# Altium footprint library SparkFun-RF.PCBLIB: 87 footprints (part 4 of 6)
Each footprint in its own frame and in the unit in brackets; x right, y up, seen from the top. Pads: shape width x height; smd on the part's side, far side on the other; paste and mask are expansions set on the pad; w line width, h text height; cw(c..) or ccw(c..) is an arc to the next point about the centre after c.
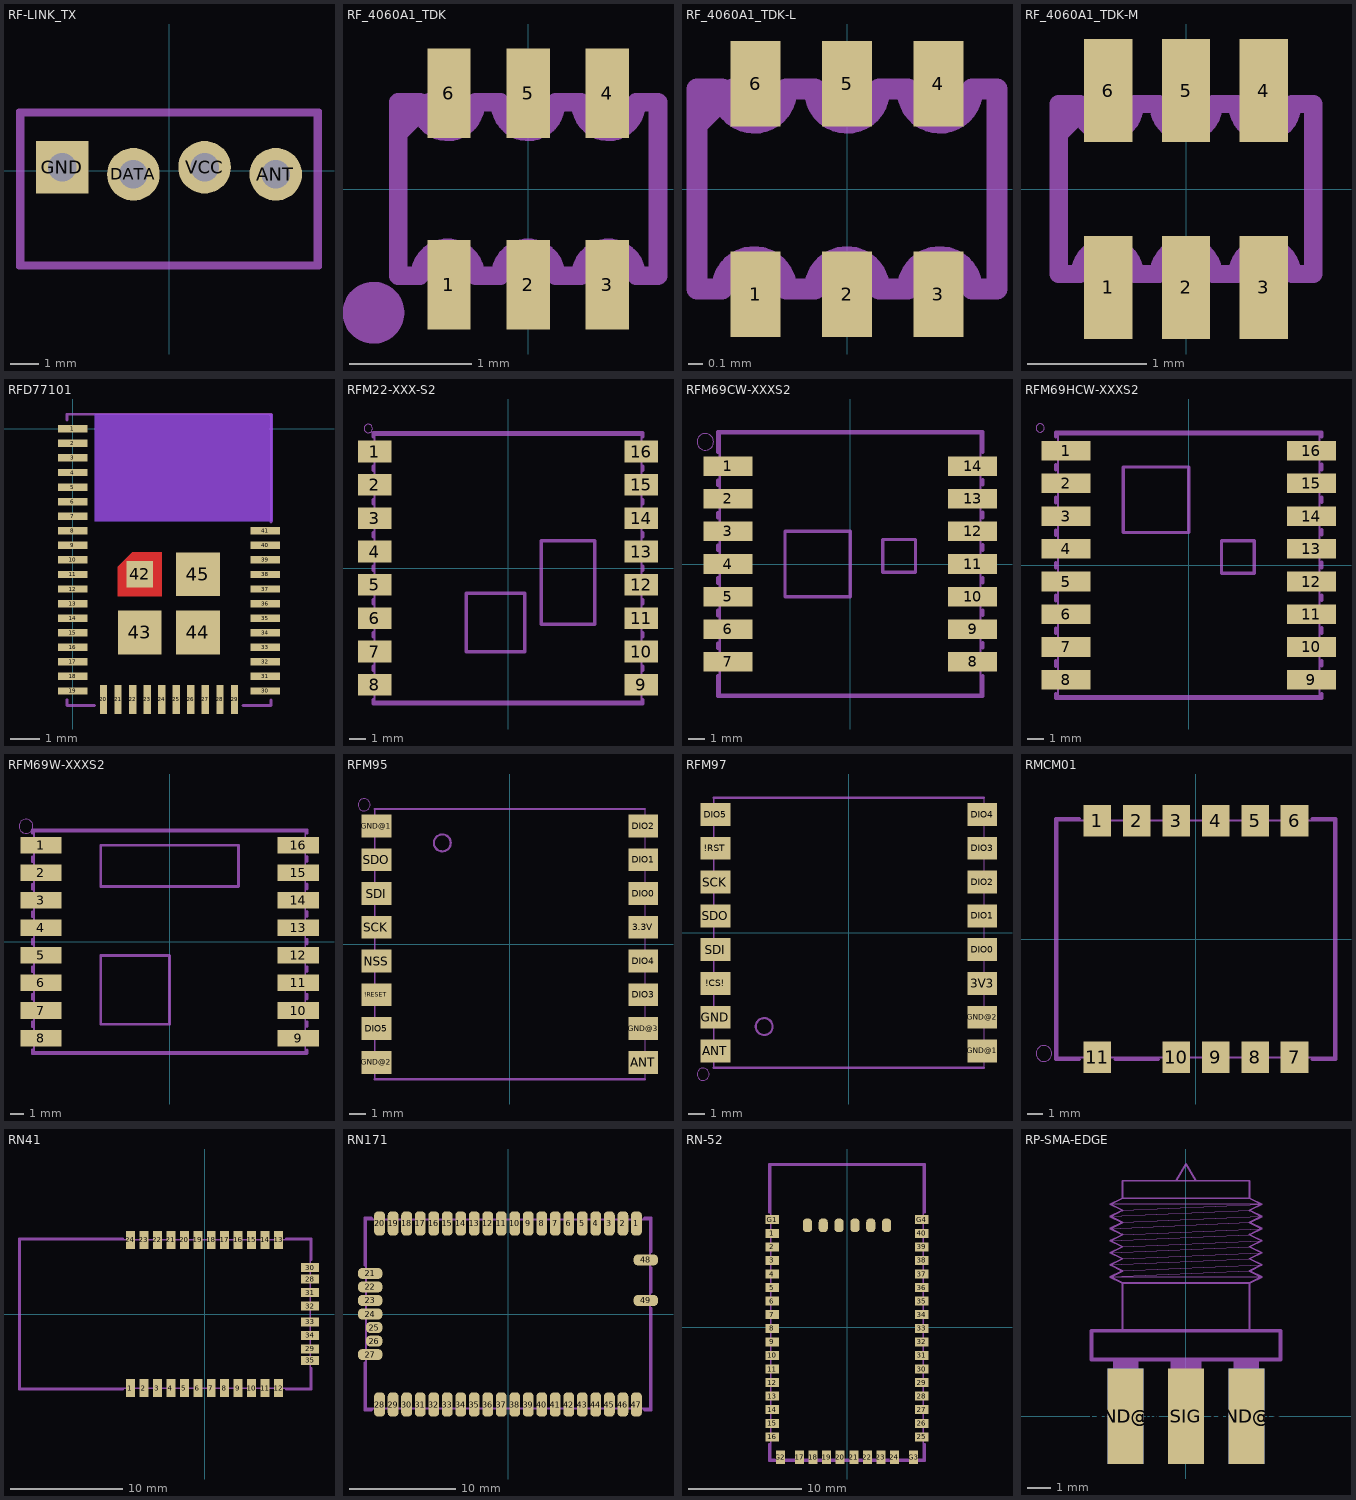
[diagram p3: the footprints below, top view; thin cyan lines are the x and y axes]

## RF-LINK_TX [mil]
pads (4):
  round 74 hole 40: ANT(150,-5) DATA(-50,-5) VCC(50,5)
  rect 74x74 / inner round 68.37 / far side rect 74x74 hole 40: GND(-150,5)
tDocu:
  region: 140,-10 140,10 160,10 160,-10
  region: 40,-10 40,10 60,10 60,-10
  region: -60,-10 -60,10 -40,10 -40,-10
  region: -160,-10 -160,10 -140,10 -140,-10
  lines w5: -205.71,-129.92 -205.71,78.74 205.71,78.74 205.71,-129.92 -205.71,-129.92
tPlace:
  lines w8: -210.71,-134.92 -210.71,83.74 210.71,83.74 210.71,-134.92 -210.71,-134.92
  text "GND" at -150,-40 h27.2
  text "DIN" at -50,-45 h27.2
  text "VCC" at 50,-40 h27.2
  text "ANT" at 150,-40 h27.2

## RF_4060A1_TDK [mil]
pads (6):
  rect 14x29 smd: 1(-25.59,-31) 2(0,-31) 3(25.59,-31) 4(25.59,31) 5(0,31) 6(-25.59,31)
tDocu:
  lines w6: -42,18 -32,28 ; -35,27 ccw(c-26,27.5) -17,28 -9,28 ; -35,28 -42,28 -42,-28 -35,-28 cw(c-26,-28) -17,-28 -9,-28 cw(c0,-28) 9,-28 17,-28 cw(c26,-28) 35,-28 42,-28 42,28 35,28 cw(c26,27.5) 17,27 ; -9,27 ccw(c0,27.5) 9,28 17,28
tPlace:
  circle w10: c-50,-40 r5
  lines w6: -42,-8 -42,8 ; 42,-8 42,8

## RF_4060A1_TDK-L [mil]
pads (6):
  rect 14x24 smd: 1(-25.59,-29.5) 2(0,-29.5) 3(25.59,-29.5) 4(25.59,29.5) 5(0,29.5) 6(-25.59,29.5)
tDocu:
  lines w6: -42,18 -32,28 ; -35,27 ccw(c-26,27.5) -17,28 -9,28 ; -35,28 -42,28 -42,-28 -35,-28 cw(c-26,-28) -17,-28 -9,-28 cw(c0,-28) 9,-28 17,-28 cw(c26,-28) 35,-28 42,-28 42,28 35,28 cw(c26,27.5) 17,27 ; -9,27 ccw(c0,27.5) 9,28 17,28
tPlace:
  lines w6: -42,-9 -42,9 ; 42,-9 42,9

## RF_4060A1_TDK-M [mil]
pads (6):
  rect 16x34 smd: 1(-25.59,-32.5) 2(0,-32.5) 3(25.59,-32.5) 4(25.59,32.5) 5(0,32.5) 6(-25.59,32.5)
tDocu:
  lines w6: -42,18 -32,28 ; -35,27 ccw(c-26,27.5) -17,28 -9,28 ; -35,28 -42,28 -42,-28 -35,-28 cw(c-26,-28) -17,-28 -9,-28 cw(c0,-28) 9,-28 17,-28 cw(c26,-28) 35,-28 42,-28 42,28 35,28 cw(c26,27.5) 17,27 ; -9,27 ccw(c0,27.5) 9,28 17,28
tPlace:
  lines w6: -42,-6 -42,6 ; 42,-6 42,6

## RFD77101 [mm]
pads (45):
  rect 1x0.254 smd: 1(0,0) 2(0,-0.5) 3(0,-1) 4(0,-1.5) 5(0,-2) 6(0,-2.5) 7(0,-3) 8(0,-3.5) 9(0,-4) 10(0,-4.5) 11(0,-5) 12(0,-5.5) 13(0,-6) 14(0,-6.5) 15(0,-7) 16(0,-7.5) 17(0,-8) 18(0,-8.5) 19(0,-9) 30(6.61,-9) 31(6.61,-8.5) 32(6.61,-8) 33(6.61,-7.5) 34(6.61,-7) 35(6.61,-6.5) 36(6.61,-6) 37(6.61,-5.5) 38(6.61,-5) 39(6.61,-4.5) 40(6.61,-4) 41(6.61,-3.5)
  rect 0.254x1 smd: 20(1.055,-9.29) 21(1.555,-9.29) 22(2.055,-9.29) 23(2.555,-9.29) 24(3.055,-9.29) 25(3.555,-9.29) 26(4.055,-9.29) 27(4.555,-9.29) 28(5.055,-9.29) 29(5.555,-9.29)
  rect 0.9x0.9 smd paste+0 mask+0: 42(2.3,-4.99)
  rect 1.5x1.5 smd paste+0: 43(2.3,-6.99) 44(4.3,-6.99) 45(4.3,-4.99)
Top:
  region: 3.05,-5.74 1.55,-5.74 1.55,-4.73 2.04,-4.24 3.05,-4.24
Top keep-out:
  region: 0.762,-3.175 0.762,0.508 6.858,0.508 6.858,-3.175
Bottom keep-out:
  region: 0.762,-3.175 0.762,0.508 6.858,0.508 6.858,-3.175
Top Paste:
  circle w0: c2.337,-4.953 r0.305
  circle w0: c4.293,-4.953 r0.305
  circle w0: c4.318,-6.985 r0.305
  circle w0: c2.286,-6.96 r0.305
Top Solder:
  region: 3.15,-4.14 1.96,-4.14 1.45,-4.65 1.45,-5.84 3.15,-5.84
tPlace:
  lines w0.1: -0.195,-9.301 -0.195,-9.5 0.749,-9.5 ; -0.195,0.305 -0.195,0.5 6.805,0.5 6.805,-3.2 ; 5.851,-9.5 6.805,-9.5 6.805,-9.302

## RFM22-XXX-S2 [mm]
pads (16):
  rect 2x1.3 smd: 1(-8,7) 2(-8,5) 3(-8,3) 4(-8,1) 5(-8,-1) 6(-8,-3) 7(-8,-5) 8(-8,-7) 9(8,-7) 10(8,-5) 11(8,-3) 12(8,-1) 13(8,1) 14(8,3) 15(8,5) 16(8,7)
tDocu:
  lines w0.127: -8,-8 -8,8 8,8 8,-8 -8,-8
  lines w0.203: -2.5,-5 1,-5 1,-1.5 -2.5,-1.5 -2.5,-5 ; 2,-3.35 2,1.65 5.2,1.65 5.2,-3.35 2,-3.35
  text "Crystal" at 4,-3 h1.24
  text "IC" at -1.2,-3.6 h1.24
tPlace:
  circle w0: c-8.382,8.382 r0.254
  lines w0.203: -8.1,-8.127 8.1,-8.127 8.1,-7.875 ; -8.1,-8.125 -8.1,-7.873 ; -8.1,-6.125 -8.1,-5.873 ; -8.1,-4.125 -8.1,-3.873 ; -8.1,-2.125 -8.1,-1.873 ; -8.1,-0.125 -8.1,0.127 ; -8.1,1.875 -8.1,2.127 ; -8.1,3.875 -8.1,4.127 ; -8.1,5.875 -8.1,6.127 ; -8.1,7.875 -8.1,8.127 8.1,8.127 ; 8.1,-6.127 8.1,-5.875 ; 8.1,-4.127 8.1,-3.875 ; 8.1,-2.127 8.1,-1.875 ; 8.1,-0.127 8.1,0.125 ; 8.1,1.873 8.1,2.125 ; 8.1,3.873 8.1,4.125 ; 8.1,5.873 8.1,6.125 ; 8.1,7.873 8.1,8.125

## RFM69CW-XXXS2 [mm]
pads (14):
  rect 3x1.2 smd: 1(-7.5,6) 2(-7.5,4) 3(-7.5,2) 4(-7.5,0) 5(-7.5,-2) 6(-7.5,-4) 7(-7.5,-6) 8(7.5,-6) 9(7.5,-4) 10(7.5,-2) 11(7.5,0) 12(7.5,2) 13(7.5,4) 14(7.5,6)
tDocu:
  lines w0.127: -8,-8 8,-8 8,8 -8,8 -8,-8
  lines w0.203: -4,-2 -4,2 0,2 0,-2 -4,-2 ; 2,-0.5 2,1.5 4,1.5 4,-0.5 2,-0.5
  text "1" at -5.485,5.35 h1.97
tPlace:
  circle w0: c-8.889,7.492 r0.508
  lines w0.203: -8.127,-6.859 -8.127,-8.127 8.127,-8.127 8.127,-6.859 ; -8.127,-5.174 -8.127,-4.844 ; -8.127,-3.174 -8.127,-2.844 ; -8.127,-1.174 -8.127,-0.844 ; -8.127,0.826 -8.127,1.156 ; -8.127,2.826 -8.127,3.156 ; -8.127,4.826 -8.127,5.156 ; -8.127,6.859 -8.127,8.127 8.127,8.127 8.127,6.859 ; 8.127,-5.156 8.127,-4.826 ; 8.127,-3.156 8.127,-2.826 ; 8.127,-1.156 8.127,-0.826 ; 8.127,0.844 8.127,1.174 ; 8.127,2.844 8.127,3.174 ; 8.127,4.844 8.127,5.174

## RFM69HCW-XXXS2 [mm]
pads (16):
  rect 3x1.2 smd: 1(-7.5,7) 2(-7.5,5) 3(-7.5,3) 4(-7.5,1) 5(-7.5,-1) 6(-7.5,-3) 7(-7.5,-5) 8(-7.5,-7) 9(7.5,-7) 10(7.5,-5) 11(7.5,-3) 12(7.5,-1) 13(7.5,1) 14(7.5,3) 15(7.5,5) 16(7.5,7)
tDocu:
  lines w0.127: -8,-8 8,-8 8,8 -8,8 -8,-8
tPlace:
  circle w0: c-9.089,8.392 r0.254
  lines w0.203: -8.127,-7.859 -8.127,-8.127 8.127,-8.127 8.127,-7.859 ; -8.127,-6.174 -8.127,-5.844 ; -8.127,-4.174 -8.127,-3.844 ; -8.127,-2.174 -8.127,-1.844 ; -8.127,-0.174 -8.127,0.156 ; -8.127,1.826 -8.127,2.156 ; -8.127,3.826 -8.127,4.156 ; -8.127,5.826 -8.127,6.156 ; -8.127,7.859 -8.127,8.127 8.127,8.127 8.127,7.859 ; 8.127,-6.156 8.127,-5.826 ; 8.127,-4.156 8.127,-3.826 ; 8.127,-2.156 8.127,-1.826 ; 8.127,-0.156 8.127,0.174 ; 8.127,1.844 8.127,2.174 ; 8.127,3.844 8.127,4.174 ; 8.127,5.844 8.127,6.174 ; -4,2 -4,6 0,6 0,2 -4,2 ; 2,-0.5 2,1.5 4,1.5 4,-0.5 2,-0.5

## RFM69W-XXXS2 [mm]
pads (16):
  rect 3x1.2 smd: 1(-9.35,7) 2(-9.35,5) 3(-9.35,3) 4(-9.35,1) 5(-9.35,-1) 6(-9.35,-3) 7(-9.35,-5) 8(-9.35,-7) 9(9.35,-7) 10(9.35,-5) 11(9.35,-3) 12(9.35,-1) 13(9.35,1) 14(9.35,3) 15(9.35,5) 16(9.35,7)
tDocu:
  lines w0.127: -9.85,-8 9.85,-8 9.85,8 -9.85,8 -9.85,-8
  lines w0.203: -5,-6 -5,-1 0,-1 0,-6 -5,-6 ; -5,4 -5,7 5,7 5,4 -5,4
  text "1" at -6.985,6.35 h1.08
tPlace:
  circle w0: c-10.435,8.381 r0.508
  lines w0.203: -9.977,-7.875 -9.977,-8.127 9.977,-8.127 9.977,-7.875 ; -9.977,-6.183 -9.977,-5.828 ; -9.977,-4.183 -9.977,-3.828 ; -9.977,-2.183 -9.977,-1.828 ; -9.977,-0.183 -9.977,0.172 ; -9.977,1.817 -9.977,2.172 ; -9.977,3.817 -9.977,4.172 ; -9.977,5.817 -9.977,6.172 ; -9.977,7.875 -9.977,8.127 9.977,8.127 9.977,7.875 ; 9.977,-6.172 9.977,-5.817 ; 9.977,-4.172 9.977,-3.817 ; 9.977,-2.172 9.977,-1.817 ; 9.977,-0.172 9.977,0.183 ; 9.977,1.828 9.977,2.183 ; 9.977,3.828 9.977,4.183 ; 9.977,5.828 9.977,6.183

## RFM95 [mm]
pads (16):
  rect 1.75x1.35 smd: 3.3V(7.9,1) !RESET(-7.9,-3) ANT(7.9,-7) DIO0(7.9,3) DIO1(7.9,5) DIO2(7.9,7) DIO3(7.9,-3) DIO4(7.9,-1) DIO5(-7.9,-5) GND@1(-7.9,7) GND@2(-7.9,-7) GND@3(7.9,-5) NSS(-7.9,-1) SCK(-7.9,1) SDI(-7.9,3) SDO(-7.9,5)
tDocu:
  drawing of 18 lines, arcs and shapes, not listed
tPlace:
  circle w0.127: c-4,6 r0.5
  circle w0: c-8.636,8.255 r0.359
  lines w0.127: -8,-8 8,-8 ; -8,8 8,8
  text "ANT" at 5.8,-7 h1.26

## RFM97 [mm]
pads (16):
  rect 1.75x1.35 smd: 3V3(7.9,-3) !CS!(-7.9,-3) !RST(-7.9,5) ANT(-7.9,-7) DIO0(7.9,-1) DIO1(7.9,1) DIO2(7.9,3) DIO3(7.9,5) DIO4(7.9,7) DIO5(-7.9,7) GND(-7.9,-5) GND@1(7.9,-7) GND@2(7.9,-5) SCK(-7.9,3) SDI(-7.9,-1) SDO(-7.9,1)
tDocu:
  drawing of 18 lines, arcs and shapes, not listed
tPlace:
  circle w0.127: c-5.016,-5.557 r0.5
  circle w0: c-8.636,-8.382 r0.359
  lines w0.127: -8,-8 8,-8 ; -8,8 8,8
  text "ANT" at -5.63,-7 h1.26

## RMCM01 [mil]
pads (11):
  rect 70x80 smd: 1(-250,300) 2(-150,300) 3(-50,300) 4(50,300) 5(150,300) 6(250,300) 7(250,-300) 8(150,-300) 9(50,-300) 10(-50,-300) 11(-250,-300)
tDocu:
  lines w5: -350,-300 -350,300 350,300 350,-300 -350,-300
tPlace:
  circle w0: c-385,-290 r20
  lines w8: -295,-305 -355,-305 -355,305 -295,305 ; -205,-305 -95,-305 ; 295,-305 355,-305 355,305 295,305

## RN41 [mil]
pads (32):
  rect 31.5x62.99 smd: 1(-259.84,-259.84) 2(-212.6,-259.84) 3(-165.35,-259.84) 4(-118.11,-259.84) 5(-70.87,-259.84) 6(-23.62,-259.84) 7(23.62,-259.84) 8(70.87,-259.84) 9(118.11,-259.84) 10(165.35,-259.84) 11(212.6,-259.84) 12(259.84,-259.84) 13(259.84,259.84) 14(212.6,259.84) 15(165.35,259.84) 16(118.11,259.84) 17(70.87,259.84) 18(23.62,259.84) 19(-23.62,259.84) 20(-70.87,259.84) 21(-118.11,259.84) 22(-165.35,259.84) 23(-212.6,259.84) 24(-259.84,259.84)
  rect 62.99x31.5 smd: 28(370.08,122.05) 29(370.08,-122.05) 30(370.08,162.29) 31(370.08,74.8) 32(370.08,27.56) 33(370.08,-27.56) 34(370.08,-74.8) 35(370.08,-162.29)
tDocu:
  lines w5: -645.67,-259.84 -645.67,259.84 370.08,259.84 370.08,-259.84 -645.67,-259.84
tPlace:
  lines w8: -286.3,-264.84 -650.67,-264.84 -650.67,264.84 -286.3,264.84 ; 285.71,-264.84 375.08,-264.84 375.08,-190.47 ; 285.71,264.84 375.08,264.84 375.08,190.47

## RN171 [mil]
pads (49):
  rrect75% 40x90 smd: 1(475,335) 2(425,335) 3(375,335) 4(325,335) 5(275,335) 6(225,335) 7(175,335) 8(125,335) 9(75,335) 10(25,335) 11(-25,335) 12(-75,335) 13(-125,335) 14(-175,335) 15(-225,335) 16(-275,335) 17(-325,335) 18(-375,335) 19(-425,335) 20(-475,335) 28(-475,-335) 29(-425,-335) 30(-375,-335) 31(-325,-335) 32(-275,-335) 33(-225,-335) 34(-175,-335) 35(-125,-335) 36(-75,-335) 37(-25,-335) 38(25,-335) 39(75,-335) 40(125,-335) 41(175,-335) 42(225,-335) 43(275,-335) 44(325,-335) 45(375,-335) 46(425,-335) 47(475,-335)
  rrect75% 90x40 smd: 21(-510,150) 22(-510,100) 23(-510,50) 24(-510,0) 27(-510,-150) 48(510,200) 49(510,50)
  rrect75% 60x40 smd: 25(-495,-50) 26(-495,-100)
Top:
  lines w12: -518,0 -500,0
tDocu:
  lines w8: -525,-350 -525,350 525,350 525,-350 -525,-350
tPlace:
  lines w10: -530,-180 -530,-355 -505,-355 ; -530,180 -530,355 -505,355 ; 505,-355 530,-355 530,20 ; 505,355 530,355 530,230 ; 530,80 530,170

## RN-52 [mil]
pads (50):
  rect 47.24x31.5 smd: 1(-259.84,327.95) 2(-259.84,280.71) 3(-259.84,233.46) 4(-259.84,186.22) 5(-259.84,138.98) 6(-259.84,91.73) 7(-259.84,44.49) 8(-259.84,-2.76) 9(-259.84,-50) 10(-259.84,-97.24) 11(-259.84,-144.49) 12(-259.84,-191.73) 13(-259.84,-238.98) 14(-259.84,-286.22) 15(-259.84,-333.46) 16(-259.84,-380.71) 25(259.84,-380.71) 26(259.84,-333.46) 27(259.84,-286.22) 28(259.84,-238.98) 29(259.84,-191.73) 30(259.84,-144.49) 31(259.84,-97.24) 32(259.84,-50) 33(259.84,-2.76) 34(259.84,44.49) 35(259.84,91.73) 36(259.84,138.98) 37(259.84,186.22) 38(259.84,233.46) 39(259.84,280.71) 40(259.84,327.95) G1(-259.84,375.2) G4(259.84,375.2)
  rect 31.5x47.24 smd: 17(-165.35,-451.57) 18(-118.11,-451.57) 19(-70.87,-451.57) 20(-23.62,-451.57) 21(23.62,-451.57) 22(70.87,-451.57) 23(118.11,-451.57) 24(165.35,-451.57) G2(-232.28,-451.57) G3(232.28,-451.18)
  rrect75% 31.5x47.24 smd: RFG1(-137.8,355.51) RFG2(-82.68,355.51) RFG3(-27.56,355.51) RFG4(27.56,355.51) RFG5(82.68,355.51) RFG6(137.8,355.51)
tDocu:
  lines w5: -265.75,-459.45 -265.75,564.17 265.75,564.17 265.75,-459.45 -265.75,-459.45
tPlace:
  lines w8: -270.75,-405.83 -270.75,-464.45 270.75,-464.45 270.75,-405.83 ; -270.75,400.55 -270.75,569.17 270.75,569.17 270.75,400.55

## RP-SMA-EDGE [mm]
pads (5):
  rect 1.5x4 smd paste+0: GND@0(-2.54,0) GND@1(2.54,0) SIG(0,0)
  rect 1.5x4 smd far side paste+0: GND@2(-2.54,0) GND@3(2.54,0)
tDocu:
  region: -3.05,-1.519 -3.05,2.381 -2.01,2.381 -2.01,-1.519
  region: -0.635,-1.519 -0.635,2.381 0.635,2.381 0.635,-1.519
  region: 2.01,-1.519 2.01,2.381 3.05,2.381 3.05,-1.519
  lines w0.025: -3.175,6.35 2.667,6.604 ; -3.175,6.858 2.667,7.112 ; -3.175,7.366 2.667,7.62 ; -3.175,7.874 2.667,8.128 ; -3.175,8.382 2.667,8.636 ; -3.175,8.89 3.175,8.89 -2.667,8.636 ; -2.667,6.096 3.175,6.35 ; -2.667,6.604 3.175,6.858 ; -2.667,7.112 3.175,7.366 ; -2.667,7.62 3.175,7.874 ; -2.667,8.128 3.175,8.382 ; 2.667,6.096 -3.175,5.842 3.175,5.842
  lines w0.076: -2.667,3.581 -2.667,5.588 ; -0.4,9.906 0,10.58 0.4,9.906 ; 2.667,3.556 2.667,5.588 ; -2.667,5.588 -3.175,5.842 -2.667,6.096 -3.175,6.35 -2.667,6.604 -3.175,6.858 -2.667,7.112 -3.175,7.366 -2.667,7.62 -3.175,7.874 -2.667,8.128 -3.175,8.382 -2.667,8.636 -3.175,8.89 -2.667,9.144 ; -2.667,5.588 2.667,5.588 ; -2.667,9.144 -2.667,9.881 2.667,9.881 2.667,9.144 ; -2.667,9.144 2.667,9.144 ; 2.667,5.588 3.175,5.842 2.667,6.096 3.175,6.35 2.667,6.604 3.175,6.858 2.667,7.112 3.175,7.366 2.667,7.62 3.175,7.874 2.667,8.128 3.175,8.382 2.667,8.636 3.175,8.89 2.667,9.144
  lines w0.152: -3.965,2.381 3.965,2.381 3.965,3.581 -3.965,3.581 -3.965,2.381